# Altium footprint library SMA_EDGE_9.53.PcbLib: 1 footprints
Each footprint in its own frame and in the unit in brackets; x right, y up, seen from the top. Pads: shape width x height; smd on the part's side, far side on the other; paste and mask are expansions set on the pad; w line width, h text height; cw(c..) or ccw(c..) is an arc to the next point about the centre after c.
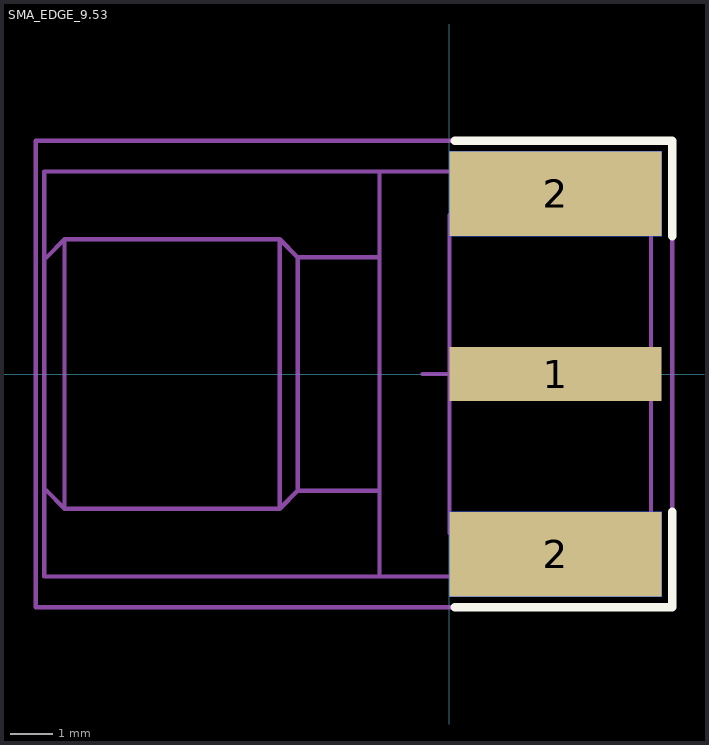
[diagram p0: the footprint, top view; thin cyan lines are the x and y axes]

## SMA_EDGE_9.53 [mm]
pads (5):
  rect 5x1.27 smd paste-5: 1(2.5,0)
  rect 5x2 smd paste-5: 2(2.5,-4.25) 2(2.5,4.25)
  rect 5x2 smd far side paste-5: 2(2.5,-4.25) 2(2.5,4.25)
Top Overlay:
  lines w0.2: 0.125,-5.5 5.25,-5.5 5.25,-3.25 ; 0.125,5.5 5.25,5.5 5.25,3.25
Mechanical 13:
  lines w0.1: -9.5,-2.75 -9.075,-3.175 ; -9.5,2.75 -9.075,3.175 ; -1.65,-4.775 -1.65,4.775 ; -1.65,-2.75 -3.575,-2.75 ; -1.65,2.75 -3.575,2.75 ; 4.75,-3.75 0,-3.75 0,-0.4 ; 4.75,-0.4 0,-0.4 ; 4.75,0.4 0,0.4 ; 4.75,3.75 2.425,3.75 0,3.75 0,0.4 ; -9.075,-3.175 -9.075,3.175 ; -9.075,-3.175 -4,-3.175 ; -9.075,3.175 -4,3.175 ; -4,-3.175 -3.575,-2.75 ; -4,-3.175 -4,3.175 ; -4,3.175 -3.575,2.75 ; -3.575,-2.75 -3.575,2.75 ; 0,-0.4 0,0.4 ; -9.55,-4.775 -9.55,4.775 4.75,4.775 4.75,-4.775 -9.55,-4.775
Mechanical 15:
  lines w0.1: -0.635,0 0.635,0 ; 0,-0.635 0,0.635 ; -9.75,-5.5 5.25,-5.5 5.25,5.5 -9.75,5.5 -9.75,-5.5
3D body "User Library-73251-1150-SMA.step": height 4.5, standoff -3.43, extent -9.53,-4.765 4.75,4.765